# EAGLE library part R_ARRAY_4 (library bt_rcl)
Resistor Array
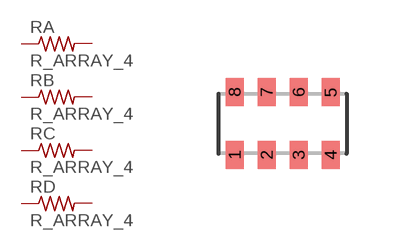
[diagram p0: symbol with the pads of R_4X_1206; footprint R_4X_1206]

Designator prefix R; gates A=R B=R C=R D=R

## R_ARRAY_4_1206  [R_4X_1206]
1  A:1  pas
2  B:1  pas
3  C:1  pas
4  D:1  pas
5  D:2  pas
6  C:2  pas
7  B:2  pas
8  A:2  pas

## Footprint R_4X_1206 (pad centres in mm)
Resistor Array 1206
smd 0.45 x 0.7: 1 -1.2,-0.785; 2 -0.4,-0.785; 3 0.4,-0.785; 4 1.2,-0.785; 5 1.2,0.785; 6 0.4,0.785; 7 -0.4,0.785; 8 -1.2,0.785